# EAGLE library part LM393D (library thomas_library)
The LM393D is a dual comparator from Texas Instruments
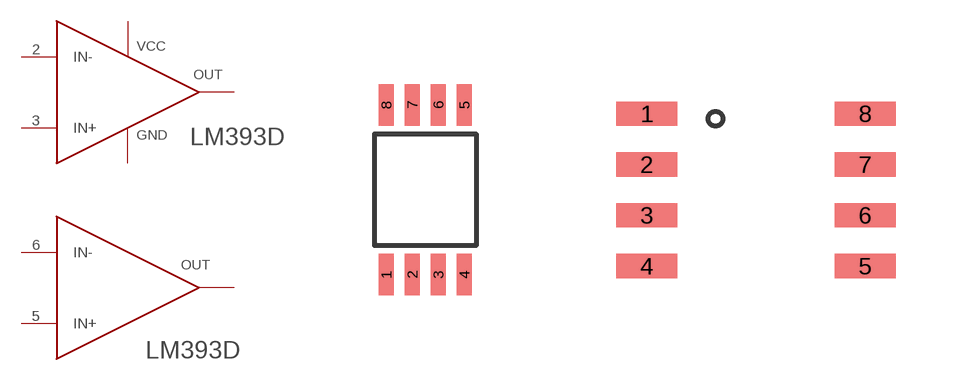
[diagram p5: symbol with the pads of MICRO_8; footprints MICRO_8, SO_8]

Designator prefix IC; gates G$1=OPAMP_PRIMARY G$2=OPAMP

## LM393D  [MICRO_8]
1  G$1:OUT
2  G$1:IN-
3  G$1:IN+
4  G$1:GND
5  G$2:IN+
6  G$2:IN-
7  G$2:OUT
8  G$1:VCC

## LM393DSOIC_8  [SO_8]
Pads as for MICRO_8

## Footprint MICRO_8 (pad centres in mm)
This Micro8 footprint has 1.04mm x 0.32mm pads, 0.65mm spacing, and 4.24mm diameter. Micro8 is a trademark of International Rectifier. Verified 8/15/2011
smd 0.381 x 1.041: 1 -0.975,-2.121; 2 -0.325,-2.121; 3 0.325,-2.121; 4 0.975,-2.121; 5 0.975,2.121; 6 0.325,2.121; 7 -0.325,2.121; 8 -0.975,2.121

## Footprint SO_8 (pad centres in mm)
smd 1.524 x 0.61: 1 -2.731,1.905; 2 -2.731,0.635; 3 -2.731,-0.635; 4 -2.731,-1.905; 5 2.731,-1.905; 6 2.731,-0.635; 7 2.731,0.635; 8 2.731,1.905